# Altium integrated library B3AL-1003P.IntLib: 2 symbols
Pins are listed as number, name and electrical type; pins without a type are passive.

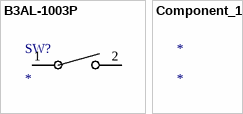
[diagram p0: symbols B3AL-1003P to Component_1]

## B3AL-1003P
designator SW?
No Description Available; Mfr_Name: Omron
footprint SW_B3AL_OMR
pins: 1, 2

## Component_1
designator *